# Altium schematic symbol library Misc.SchLib: 3 symbols
Pins are listed as number, name and electrical type; pins without a type are passive.

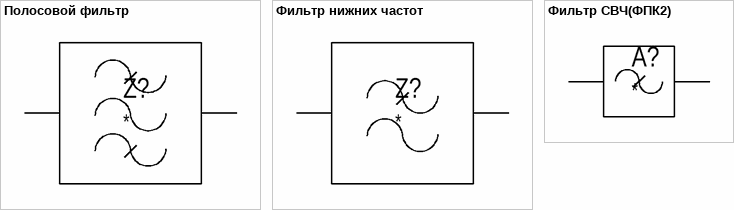
[diagram p0: symbols Полосовой фильтр to Фильтр СВЧ(ФПК2)]

## Полосовой фильтр
designator Z?  (no BOM)
pins: 1, 2, 3 (power) hidden

## Фильтр нижних частот
designator Z?  (no BOM)
pins: 1, 2

## Фильтр СВЧ(ФПК2)
designator A?  (no BOM)
pins: 1, 2